# EAGLE library part UCC28880DR (library IC - PMIC - AC-DC Converters)
IC OFF-LINE SWITCH PWM 7SOIC High Voltage Switcher for Non-isolated AC/DC Conversion 7-SOIC
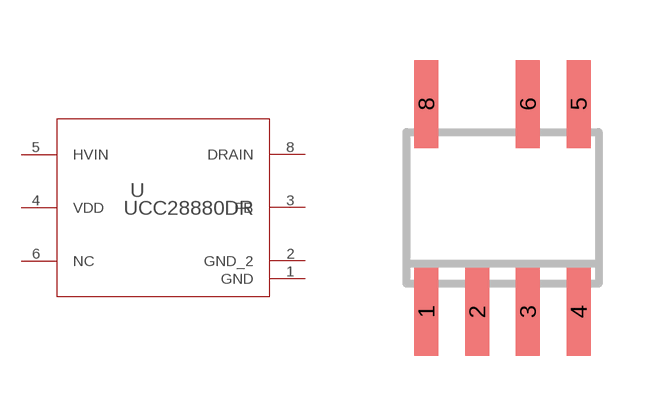
[diagram p0: symbol with the pads of SO08-7; footprint SO08-7]

Designator prefix U

## UCC28880DR (VIN: 700)  [SO08-7]
1  GND  pwr
2  GND_2  pwr
3  FB  in
4  VDD  pwr
5  HVIN  pwr
6  NC  pas
8  DRAIN  pas

## Footprint SO08-7 (pad centres in mm)
Small Outline Package 8 NS Package M08A
smd 0.6 x 2.2: 1 -1.905,-2.6; 2 -0.635,-2.6; 3 0.635,-2.6; 4 1.905,-2.6; 5 1.905,2.6; 6 0.635,2.6; 8 -1.905,2.6